# EAGLE library part 6473423-2 (library 6473423-2)
Automotive Connectors SUPER SEAL 26POS CAP ASSY H AU Source: Datasheet <https://componentsearchengine.com/Datasheets/1/6473423-2.pdf>
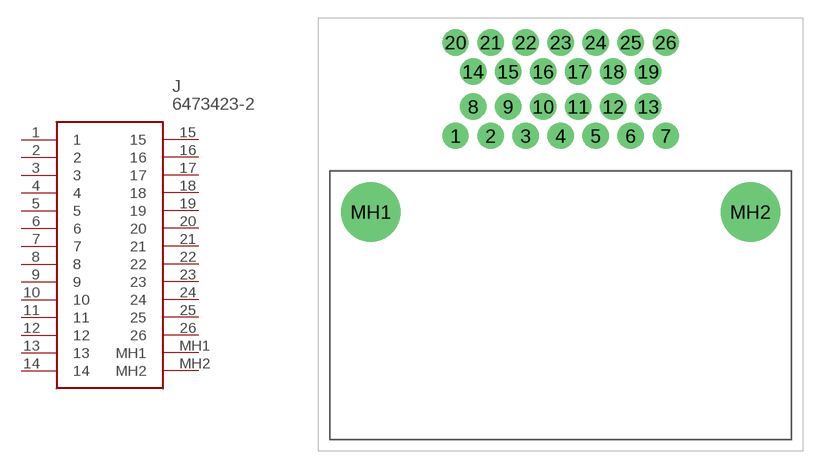
[diagram p0: symbol with the pads of 64734232; footprint 64734232]

Designator prefix J

## 6473423-2 (DESCRIPTION: Automotive Connectors SUPER SEAL 26POS CAP ASSY H AU; HEIGHT: 24.9mm; MANUFACTURER_NAME: TE Connectivity; MANUFACTURER_PART_NUMBER: 6473423-2; MOUSER_PART_NUMBER: 571-6473423-2; MOUSER_PRICE-STOCK: https://www.mouser.com/Search/Refine.aspx?Keyword=571-6473423-2)  [64734232]
1  1
2  2
3  3
4  4
5  5
6  6
7  7
8  8
9  9
10  10
11  11
12  12
13  13
14  14
15  15
16  16
17  17
18  18
19  19
20  20
21  21
22  22
23  23
24  24
25  25
26  26
MH1  MH1
MH2  MH2

## Footprint 64734232 (pad centres in mm)
6473423-2-2
drill 1.5 pad 2.007: 1 0,0; 2 3,0; 3 6,0; 4 9,0; 5 12,0; 6 15,0; 7 18,0; 8 1.5,2.5; 9 4.5,2.5; 10 7.5,2.5; 11 10.5,2.5; 12 13.5,2.5; 13 16.5,2.5; 14 1.5,5.5; 15 4.5,5.5; 16 7.5,5.5; 17 10.5,5.5; 18 13.5,5.5; 19 16.5,5.5; 20 0,8; 21 3,8; 22 6,8; 23 9,8; 24 12,8; 25 15,8; 26 18,8
drill 3.4 pad 5.1: MH1 -7.25,-6.5; MH2 25.25,-6.5